# EAGLE library part DAC,SERIAL,FDBK (library QuantumOptics)
DAC with output feedback, serial, ref pin, such as Analog Devices AD5620/40/60 with int ref, 3-5V, slow.
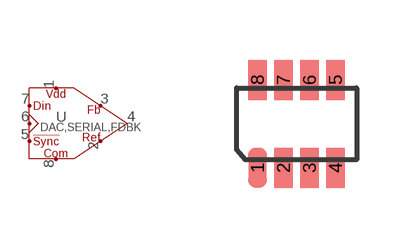
[diagram p230: symbol with the pads of SOT23-8; footprint SOT23-8]

Designator prefix U

## DAC,SERIAL,FDBK-SOT23-8  [SOT23-8]
1  VDD
2  REFOUT
3  FB
4  OUT
5  !SYNC
6  SCLK
7  SDI
8  COM

## Footprint SOT23-8 (pad centres in mm)
SOT23-8, based on TI's DCN(R-PDSO-G8) device.
smd 0.47 x 1: 1 -0.975,-1.1; 2 -0.325,-1.1; 3 0.325,-1.1; 4 0.975,-1.1; 5 0.975,1.1; 6 0.325,1.1; 7 -0.325,1.1; 8 -0.975,1.1